# Altium schematic symbol library TXB010X.SchLib: 2 symbols
Pins are listed as number, name and electrical type; pins without a type are passive.

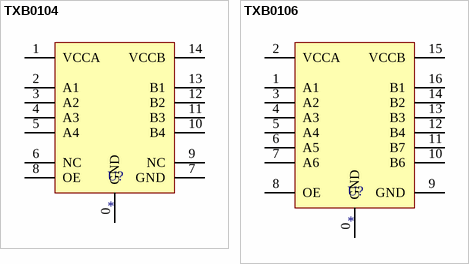
[diagram p0: symbols TXB0104 to TXB0106]

## TXB0104
designator U?
6-BIT BIDIRECTIONAL VOLTAGE-LEVEL
pins: 0 GND (power), 1 VCCA (power), 2 A1 (power), 3 A2 (power), 4 A3 (power), 5 A4 (power), 6 NC (power), 7 GND (power), 8 OE (power), 9 NC (power), 10 B4 (power), 11 B3 (power), 12 B2 (power), 13 B1 (power), 14 VCCB (power)

## TXB0106
designator U?
6-BIT BIDIRECTIONAL VOLTAGE-LEVE
pins: 0 GND (power), 1 A1 (power), 2 VCCA (power), 3 A2 (power), 4 A3 (power), 5 A4 (power), 6 A5 (power), 7 A6 (power), 8 OE (power), 9 GND (power), 10 B6 (power), 11 B7 (power), 12 B4 (power), 13 B3 (power), 14 B2 (power), 15 VCCB (power), 16 B1 (power)